# Altium schematic symbol library power_jack.SchLib: 1 symbol
Pins are listed as number, name and electrical type; pins without a type are passive.

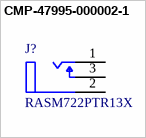
[diagram p0: symbol CMP-47995-000002-1]

## CMP-47995-000002-1
designator J?, comment RASM722PTR13X
CONN PWR JACK 2.1X5.5MM SOLDER; Manufacturer: Switchcraft; Shielding: Unshielded; Gender: Male; Current Rating: 5A; Termination: Solder; Contact Material: Copper Alloy; Package Quantity: 120; Case/Package: SMD/SMT; Contact Plating: Tin; Connector Type: Jack; Housing Material: Thermoplastic; Mount: Surface Mount; Housing Color: Black; Color: Black; Supplier 1: Digi-Key; Supplier Part Number 1: SC2028-1-ND; RoHS: Yes; Category: Power Connectors; Stock 1: 5317; Pricing 1: 1=2.04000, 10=1.95800, 25=1.79520, 50=1.71360 (USD); ComponentLink1URL: https://datasheet.ciiva.com/17/edg4-17820.pdf?src-supplier=Digi-Key; ComponentLink1Description: https://datasheet.ciiva.com/17/edg4-17820.pdf?src-supplier=Digi-Key; ComponentLink2URL: https://datasheet.ciiva.com/18496/edg4-18496955.pdf?src-supplier=Digi-Key; ComponentLink2Description: https://datasheet.ciiva.com/18496/edg4-18496955.pdf?src-supplier=Digi-Key; ComponentLink3URL: https://datasheet.ciiva.com/18496/edg4-18496956.pdf?src-supplier=Digi-Key; ComponentLink3Description: https://datasheet.ciiva.com/18496/edg4-18496956.pdf?src-supplier=Digi-Key; ComponentLink4URL: https://datasheet.ciiva.com/18496/edg4-18496957.pdf?src-supplier=Digi-Key; ComponentLink4Description: https://datasheet.ciiva.com/18496/edg4-18496957.pdf?src-supplier=Digi-Key; Manufacturer Part Number: RASM722PTR13X
footprint FP-RASM722PTR13X-MFG
footprint FP-RASM722PTR13X-MFG
pins: 1 TIP TERMINAL(CENTER PIN), 2 SLEEVE TERMINAL, 3 SHUNT TERMINAL